# EAGLE library part LMV358 (library LMV358)
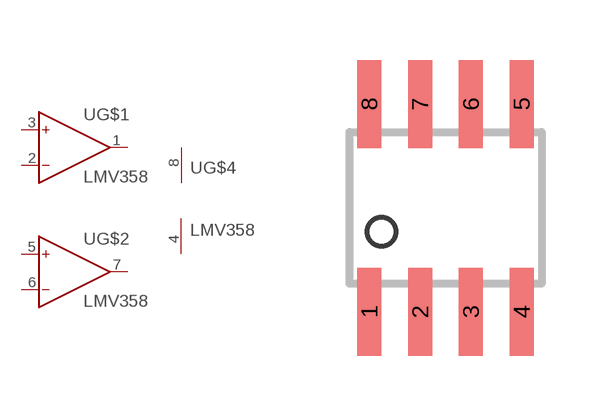
[diagram p150: symbol with the pads of SO8; footprint SO8]

Designator prefix -; gates G$1=OP G$2=OP G$4=PWR+-

## LMV358  [SO8]
1  G$1:OUT  out
2  G$1:IN-  in
3  G$1:IN+  in
4  G$4:V-  pwr
5  G$2:IN+  in
6  G$2:IN-  in
7  G$2:OUT  out
8  G$4:V+  pwr

## Footprint SO8 (pad centres in mm)
8-Lead Small Outline IC (SO-8) Source: http://www.analog.com/UploadedFiles/Data_Sheets/703465986AD8611_2_0.pdf
smd 0.6 x 2.2: 1 -1.905,-2.6; 2 -0.635,-2.6; 3 0.635,-2.6; 4 1.905,-2.6; 5 1.905,2.6; 6 0.635,2.6; 7 -0.635,2.6; 8 -1.905,2.6